# Altium integrated library LM358NG.IntLib: 1 symbol
Pins are listed as number, name and electrical type; pins without a type are passive.

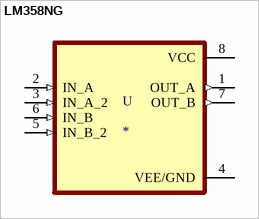
[diagram p0: symbol LM358NG]

## LM358NG
designator U
General Purpose Amplifier 2 Circuit 8-PDIP; MF: ON Semiconductor; MP: LM358NG; Value: *; Price: None; Availability: Unavailable; SnapEDA_Link: https://www.snapeda.com/parts/LM358NG/ON%20Semiconductor/view-part/182/?ref=snap; Package: DIP-8 ON Semiconductor
footprint DIP794W45P254L1016H508Q8
pins: 1 OUT_A (out), 2 IN_A (in), 3 IN_A_2 (in), 4 VEE/GND (power), 5 IN_B_2 (in), 6 IN_B (in), 7 OUT_B (out), 8 VCC (power)